# Altium integrated library Actel Fusion.IntLib: 336 symbols (part 35 of 69)
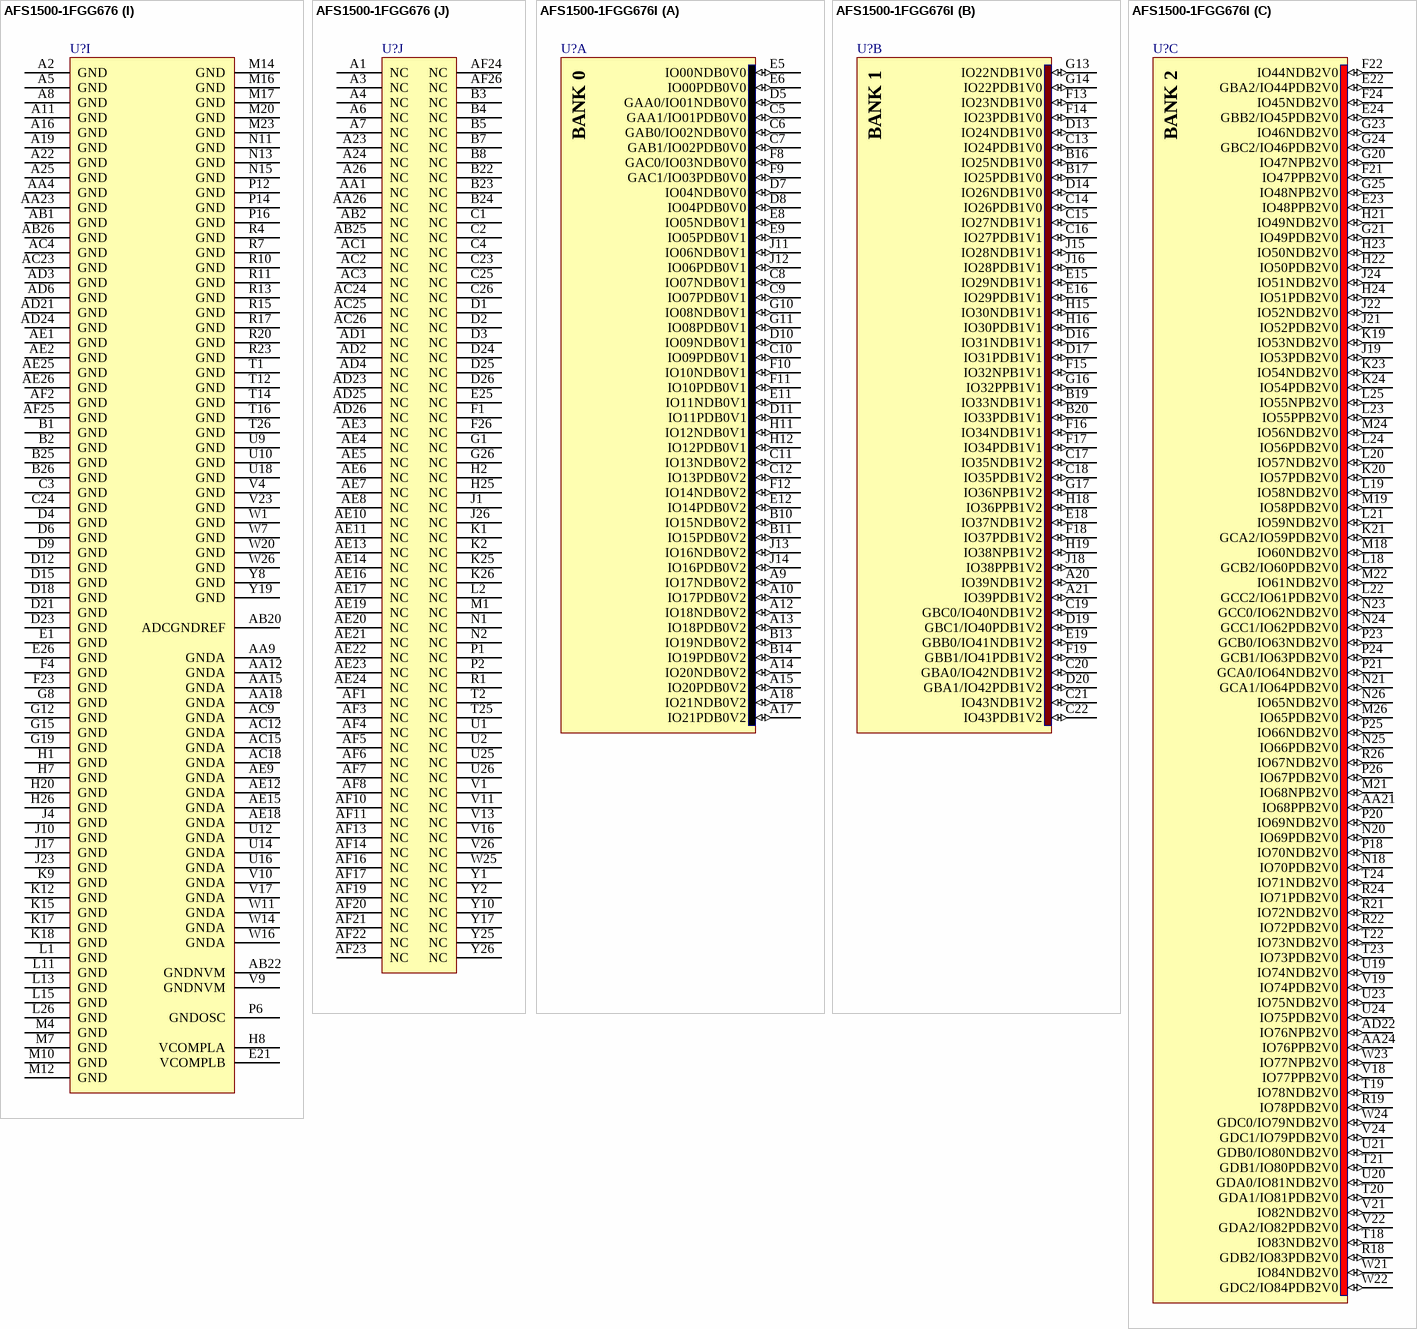
[diagram p315: symbols AFS1500-1FGG676 to AFS1500-1FGG676I]

## AFS1500-1FGG676
designator U?
3.3V Fusion Mixed Signal Flash FPGA, 1.5 Million System Gates, 676-Pin FBGA, 15% Faster Speed Grade, Commercial Grade, Pb-Free; DatasheetVersion: v2.0, Jul-2008; PackageVersion: rev39, Aug-2010; PackageReference: FG676; PackageDescription: 676-Ball Fine Pitch Plastic Ball Grid Array (FG676); Code_JEDEC: MS-034-AAL-1; Code_IPC: BGA100P26X26-676; ComponentLink1Description: Manufacturer URL; ComponentLink1URL: http://www.actel.com/; ComponentLink2Description: Fusion Datasheet; ComponentLink2URL: http://www.actel.com/documents/Fusion_DS.pdf; ComponentLink3Description: Package Mechanical Drawings; ComponentLink3URL: http://www.actel.com/documents/PckgMechDrwngs.pdf; ComponentLink4Description: Fusion Documents; ComponentLink4URL: http://www.actel.com/products/fusion/docs.aspx
footprint FG676 (BGA, 676-Leads, Body 27x27mm, Pitch 1mm)
part A pins: A9 IO17NDB0V2 (io), A10 IO17PDB0V2 (io), A12 IO18NDB0V2 (io), A13 IO18PDB0V2 (io), A14 IO20NDB0V2 (io), A15 IO20PDB0V2 (io), A17 IO21PDB0V2 (io), A18 IO21NDB0V2 (io), B10 IO15NDB0V2 (io), B11 IO15PDB0V2 (io), B13 IO19NDB0V2 (io), B14 IO19PDB0V2 (io), C5 GAA1/IO01PDB0V0 (io), C6 GAB0/IO02NDB0V0 (io), C7 GAB1/IO02PDB0V0 (io), C8 IO07NDB0V1 (io), C9 IO07PDB0V1 (io), C10 IO09PDB0V1 (io), C11 IO13NDB0V2 (io), C12 IO13PDB0V2 (io), D5 GAA0/IO01NDB0V0 (io), D7 IO04NDB0V0 (io), D8 IO04PDB0V0 (io), D10 IO09NDB0V1 (io), D11 IO11PDB0V1 (io), E5 IO00NDB0V0 (io), E6 IO00PDB0V0 (io), E8 IO05NDB0V1 (io), E9 IO05PDB0V1 (io), E11 IO11NDB0V1 (io), E12 IO14PDB0V2 (io), F8 GAC0/IO03NDB0V0 (io), F9 GAC1/IO03PDB0V0 (io), F10 IO10NDB0V1 (io), F11 IO10PDB0V1 (io), F12 IO14NDB0V2 (io), G10 IO08NDB0V1 (io), G11 IO08PDB0V1 (io), H11 IO12NDB0V1 (io), H12 IO12PDB0V1 (io), J11 IO06NDB0V1 (io), J12 IO06PDB0V1 (io), J13 IO16NDB0V2 (io), J14 IO16PDB0V2 (io)
part B pins: A20 IO39NDB1V2 (io), A21 IO39PDB1V2 (io), B16 IO25NDB1V0 (io), B17 IO25PDB1V0 (io), B19 IO33NDB1V1 (io), B20 IO33PDB1V1 (io), C13 IO24PDB1V0 (io), C14 IO26PDB1V0 (io), C15 IO27NDB1V1 (io), C16 IO27PDB1V1 (io), C17 IO35NDB1V2 (io), C18 IO35PDB1V2 (io), C19 GBC0/IO40NDB1V2 (io), C20 GBA0/IO42NDB1V2 (io), C21 IO43NDB1V2 (io), C22 IO43PDB1V2 (io), D13 IO24NDB1V0 (io), D14 IO26NDB1V0 (io), D16 IO31NDB1V1 (io), D17 IO31PDB1V1 (io), D19 GBC1/IO40PDB1V2 (io), D20 GBA1/IO42PDB1V2 (io), E15 IO29NDB1V1 (io), E16 IO29PDB1V1 (io), E18 IO37NDB1V2 (io), E19 GBB0/IO41NDB1V2 (io), F13 IO23NDB1V0 (io), F14 IO23PDB1V0 (io), F15 IO32NPB1V1 (io), F16 IO34NDB1V1 (io), F17 IO34PDB1V1 (io), F18 IO37PDB1V2 (io), F19 GBB1/IO41PDB1V2 (io), G13 IO22NDB1V0 (io), G14 IO22PDB1V0 (io), G16 IO32PPB1V1 (io), G17 IO36NPB1V2 (io), H15 IO30NDB1V1 (io), H16 IO30PDB1V1 (io), H18 IO36PPB1V2 (io), H19 IO38NPB1V2 (io), J15 IO28NDB1V1 (io), J16 IO28PDB1V1 (io), J18 IO38PPB1V2 (io)
part C pins: AA21 IO68PPB2V0 (io), AA24 IO76PPB2V0 (io), AD22 IO76NPB2V0 (io), E22 GBA2/IO44PDB2V0 (io), E23 IO48PPB2V0 (io), E24 GBB2/IO45PDB2V0 (io), F21 IO47PPB2V0 (io), F22 IO44NDB2V0 (io), F24 IO45NDB2V0 (io), G20 IO47NPB2V0 (io), G21 IO49PDB2V0 (io), G23 IO46NDB2V0 (io), G24 GBC2/IO46PDB2V0 (io), G25 IO48NPB2V0 (io), H21 IO49NDB2V0 (io), H22 IO50PDB2V0 (io), H23 IO50NDB2V0 (io), H24 IO51PDB2V0 (io), J19 IO53PDB2V0 (io), J21 IO52PDB2V0 (io), J22 IO52NDB2V0 (io), J24 IO51NDB2V0 (io), K19 IO53NDB2V0 (io), K20 IO57PDB2V0 (io), K21 GCA2/IO59PDB2V0 (io), K23 IO54NDB2V0 (io), K24 IO54PDB2V0 (io), L18 GCB2/IO60PDB2V0 (io), L19 IO58NDB2V0 (io), L20 IO57NDB2V0 (io), L21 IO59NDB2V0 (io), L22 GCC2/IO61PDB2V0 (io), L23 IO55PPB2V0 (io), L24 IO56PDB2V0 (io), L25 IO55NPB2V0 (io), M18 IO60NDB2V0 (io), M19 IO58PDB2V0 (io), M21 IO68NPB2V0 (io), M22 IO61NDB2V0 (io), M24 IO56NDB2V0 (io), M26 IO65PDB2V0 (io), N18 IO70PDB2V0 (io), N20 IO69PDB2V0 (io), N21 GCA1/IO64PDB2V0 (io), N23 GCC0/IO62NDB2V0 (io), N24 GCC1/IO62PDB2V0 (io), N25 IO66PDB2V0 (io), N26 IO65NDB2V0 (io), P18 IO70NDB2V0 (io), P20 IO69NDB2V0 (io), P21 GCA0/IO64NDB2V0 (io), P23 GCB0/IO63NDB2V0 (io), P24 GCB1/IO63PDB2V0 (io), P25 IO66NDB2V0 (io), P26 IO67PDB2V0 (io), R18 GDB2/IO83PDB2V0 (io), R19 IO78PDB2V0 (io), R21 IO72NDB2V0 (io), R22 IO72PDB2V0 (io), R24 IO71PDB2V0 (io), R26 IO67NDB2V0 (io), T18 IO83NDB2V0 (io), T19 IO78NDB2V0 (io), T20 GDA1/IO81PDB2V0 (io), T21 GDB1/IO80PDB2V0 (io), T22 IO73NDB2V0 (io), T23 IO73PDB2V0 (io), T24 IO71NDB2V0 (io), U19 IO74NDB2V0 (io), U20 GDA0/IO81NDB2V0 (io), U21 GDB0/IO80NDB2V0 (io), U23 IO75NDB2V0 (io), U24 IO75PDB2V0 (io), V18 IO77PPB2V0 (io), V19 IO74PDB2V0 (io), V21 IO82NDB2V0 (io), V22 GDA2/IO82PDB2V0 (io), V24 GDC1/IO79PDB2V0 (io), W21 IO84NDB2V0 (io), W22 GDC2/IO84PDB2V0 (io), W23 IO77NPB2V0 (io), W24 GDC0/IO79NDB2V0 (io)
part D pins: AA3 IO93PDB4V0 (io), AA5 IO93NDB4V0 (io), AA6 GEB2/IO86PDB4V0 (io), AA7 IO86NDB4V0 (io), AB3 GEC2/IO87PDB4V0 (io), AB4 IO87NDB4V0 (io), AB5 GEA2/IO85PDB4V0 (io), AB6 IO85NDB4V0 (io), AD5 IO94NPB4V0 (io), E2 IO122NPB4V0 (io), E3 IO121PDB4V0 (io), E4 IO122PPB4V0 (io), F3 IO121NDB4V0 (io), F5 IO123NDB4V0 (io), F6 GAC2/IO123PDB4V0 (io), F7 GAA2/IO125PDB4V0 (io), G2 IO119PPB4V0 (io), G3 IO120NDB4V0 (io), G4 IO120PDB4V0 (io), G6 GAB2/IO124PDB4V0 (io), G7 IO125NDB4V0 (io), H3 IO118NDB4V0 (io), H4 IO118PDB4V0 (io), H5 IO119NPB4V0 (io), H6 IO124NDB4V0 (io), J3 IO115PDB4V0 (io), J5 IO116NDB4V0 (io), J6 IO116PDB4V0 (io), J8 IO117PDB4V0 (io), K3 IO115NDB4V0 (io), K4 IO113PDB4V0 (io), K6 IO114NDB4V0 (io), K7 IO114PDB4V0 (io), K8 IO117NDB4V0 (io), L3 IO112PPB4V0 (io), L4 IO113NDB4V0 (io), L5 GFB2/IO109PDB4V0 (io), L6 GFA2/IO110PDB4V0 (io), L7 IO112NPB4V0 (io), L8 IO104PDB4V0 (io), L9 IO111PDB4V0 (io), M3 GFC2/IO108PDB4V0 (io), M5 IO109NDB4V0 (io), M6 IO110NDB4V0 (io), M8 IO104NDB4V0 (io), M9 IO111NDB4V0 (io), N3 IO108NDB4V0 (io), N7 GFC1/IO107PDB4V0 (io), N9 GFB1/IO106PDB4V0 (io), P3 IO103PDB4V0 (io), P7 GFC0/IO107NDB4V0 (io), P9 GFB0/IO106NDB4V0 (io), R3 IO103NDB4V0 (io), R5 IO101PDB4V0 (io), R6 IO100NPB4V0 (io), R8 IO99PDB4V0 (io), R9 IO97PDB4V0 (io), T3 GFA1/IO105PDB4V0 (io), T4 GFA0/IO105NDB4V0 (io), T5 IO101NDB4V0 (io), T6 IO96PDB4V0 (io), T7 IO96NDB4V0 (io), T8 IO99NDB4V0 (io), T9 IO97NDB4V0 (io), U3 IO102PDB4V0 (io), U4 IO102NDB4V0 (io), U6 IO91PDB4V0 (io), U7 IO91NDB4V0 (io), U8 IO92PDB4V0 (io), V3 IO100PPB4V0 (io), V5 IO95PDB4V0 (io), V6 IO95NDB4V0 (io), V8 IO92NDB4V0 (io), W2 IO94PPB4V0 (io), W3 IO98PDB4V0 (io), W4 IO98NDB4V0 (io), W5 GEC1/IO90PDB4V0 (io), W6 GEC0/IO90NDB4V0 (io), Y3 GEB1/IO89PDB4V0 (io), Y4 GEB0/IO89NDB4V0 (io), Y6 GEA1/IO88PDB4V0 (io), Y7 GEA0/IO88NDB4V0 (io)
part E pins: AA8 AV0 (in), AA10 AV1 (in), AA11 AV2 (in), AA13 AV3 (in), AA14 AV6 (in), AA16 AV7 (in), AA17 AV8 (in), AA19 AV9 (in), AB8 AC0 (in), AB10 AC1 (in), AB11 AC2 (in), AB13 AC3 (in), AB14 AC6 (in), AB16 AC7 (in), AB17 AC8 (in), AB19 AC9 (in), AC8 AG0 (out), AC10 AG1 (out), AC11 AG2 (out), AC13 AG3 (out), AC14 AG6 (out), AC16 AG7 (out), AC17 AG8 (out), AC19 AG9 (out), AD8 AT0 (in), AD9 ATRTN0, AD10 AT1 (in), AD11 AT2 (in), AD12 ATRTN1, AD13 AT3 (in), AD14 AT6 (in), AD15 ATRTN3, AD16 AT7 (in), AD17 AT8 (in), AD18 ATRTN4, AD19 AT9 (in), V12 AV4 (in), V14 AV5 (in), V15 AC5 (in), W12 AC4 (in), W15 AG5 (out), Y12 AG4 (out), Y13 AT4 (in), Y14 ATRTN2, Y15 AT5 (in)
part F pins: AA22 TCK (in), W19 TDI (in), Y20 TMS (in), Y23 ~{TRST} (in), Y24 TDO (out)
part G pins: AB7 NCAP, AB21 PTBASE (out), AC7 PCAP, AC22 PTEM (in), N6 XTAL2, P4 XTAL1, W17 PUB
part H pins: AA2 VCCIB4 (power), AA20 VCCIB2 (power), AA25 VCCIB2 (power), AB9 VCC33A (power), AB12 VCC33A (power), AB15 VCC33A (power), AB18 VCC33A (power), AB23 VCCNVM (power), AB24 VPUMP (power), AC5 VCCIB4 (power), AC6 VCCIB4 (power), AC20 VAREF (power), AC21 VCCIB2 (power), AD7 VCC33N (power), AD20 VCC33A (power), AF9 VCC33A (power), AF12 VCC33A (power), AF15 VCC33A (power), AF18 VCC33A (power), B6 VCCIB0 (power), B9 VCCIB0 (power), B12 VCCIB0 (power), B15 VCCIB1 (power), B18 VCCIB1 (power), B21 VCCIB1 (power), D22 VCCPLB (power), E7 VCCIB0 (power), E10 VCCIB0 (power), E13 VCCIB0 (power), E14 VCCIB1 (power), E17 VCCIB1 (power), E20 VCCIB1 (power), F2 VCCIB4 (power), F20 VCCIB2 (power), F25 VCCIB2 (power), G5 VCCIB4 (power), G9 VCCIB0 (power), G18 VCCIB1 (power), G22 VCCIB2 (power), H9 VCCPLA (power), H10 VCCIB0 (power), H13 VCCIB0 (power), H14 VCCIB1 (power), H17 VCCIB1 (power), J2 VCCIB4 (power), J7 VCCIB4 (power), J9 VCCIB4 (power), J20 VCCIB2 (power), J25 VCCIB2 (power), K5 VCCIB4 (power), K10 VCC (power), K11 VCCIB0 (power), K13 VCCIB0 (power), K14 VCCIB1 (power), K16 VCCIB1 (power), K22 VCCIB2 (power), L10 VCCIB4 (power), L12 VCC (power), L14 VCC (power), L16 VCC (power), L17 VCCIB2 (power), M2 VCCIB4 (power), M11 VCC (power), M13 VCC (power), M15 VCC (power), M25 VCCIB2 (power), N4 VCCOSC (power), N5 VCCIB4 (power), N8 VCCIB4 (power), N10 VCCIB4 (power), N12 VCC (power), N14 VCC (power), N16 VCC (power), N17 VCCIB2 (power), N19 VCCIB2 (power), N22 VCCIB2 (power), P5 VCCIB4 (power), P8 VCCIB4 (power), P10 VCCIB4 (power), P11 VCC (power), P13 VCC (power), P15 VCC (power), P17 VCCIB2 (power), P19 VCCIB2 (power), P22 VCCIB2 (power), R2 VCCIB4 (power), R12 VCC (power), R14 VCC (power), R16 VCC (power), R25 VCCIB2 (power), T10 VCCIB4 (power), T11 VCC (power), T13 VCC (power), T15 VCC (power), T17 VCCIB2 (power), U5 VCCIB4 (power), U11 VCC33A (power), U13 VCC33A (power), U15 VCC33A (power), U17 VCC (power), U22 VCCIB2 (power), V2 VCCIB4 (power), V7 VCCIB4 (power), V20 VCCIB2 (power), V25 VCCIB2 (power), W8 VCCNVM (power), W9 VCCIB4 (power), W10 VCC15A (power), W13 VCC33A (power), W18 VCCIB2 (power), Y5 VCCIB4 (power), Y9 VCC33PMP (power), Y11 VCC33A (power), Y16 VCC33A (power), Y18 VCC33A (power), Y21 VJTAG (power), Y22 VCCIB2 (power)
part I pins: A2 GND (power), A5 GND (power), A8 GND (power), A11 GND (power), A16 GND (power), A19 GND (power), A22 GND (power), A25 GND (power), AA4 GND (power), AA9 GNDA (power), AA12 GNDA (power), AA15 GNDA (power), AA18 GNDA (power), AA23 GND (power), AB1 GND (power), AB20 ADCGNDREF (power), AB22 GNDNVM (power), AB26 GND (power), AC4 GND (power), AC9 GNDA (power), AC12 GNDA (power), AC15 GNDA (power), AC18 GNDA (power), AC23 GND (power), AD3 GND (power), AD6 GND (power), AD21 GND (power), AD24 GND (power), AE1 GND (power), AE2 GND (power), AE9 GNDA (power), AE12 GNDA (power), AE15 GNDA (power), AE18 GNDA (power), AE25 GND (power), AE26 GND (power), AF2 GND (power), AF25 GND (power), B1 GND (power), B2 GND (power), B25 GND (power), B26 GND (power), C3 GND (power), C24 GND (power), D4 GND (power), D6 GND (power), D9 GND (power), D12 GND (power), D15 GND (power), D18 GND (power), D21 GND (power), D23 GND (power), E1 GND (power), E21 VCOMPLB (power), E26 GND (power), F4 GND (power), F23 GND (power), G8 GND (power), G12 GND (power), G15 GND (power), G19 GND (power), H1 GND (power), H7 GND (power), H8 VCOMPLA (power), H20 GND (power), H26 GND (power), J4 GND (power), J10 GND (power), J17 GND (power), J23 GND (power), K9 GND (power), K12 GND (power), K15 GND (power), K17 GND (power), K18 GND (power), L1 GND (power), L11 GND (power), L13 GND (power), L15 GND (power), L26 GND (power), M4 GND (power), M7 GND (power), M10 GND (power), M12 GND (power), M14 GND (power), M16 GND (power), M17 GND (power), M20 GND (power), M23 GND (power), N11 GND (power), N13 GND (power), N15 GND (power), P6 GNDOSC (power), P12 GND (power), P14 GND (power), P16 GND (power), R4 GND (power), R7 GND (power), R10 GND (power), R11 GND (power), R13 GND (power), R15 GND (power), R17 GND (power), R20 GND (power), R23 GND (power), T1 GND (power), T12 GND (power), T14 GND (power), T16 GND (power), T26 GND (power), U9 GND (power), U10 GND (power), U12 GNDA (power), U14 GNDA (power), U16 GNDA (power), U18 GND (power), V4 GND (power), V9 GNDNVM (power), V10 GNDA (power), V17 GNDA (power), V23 GND (power), W1 GND (power), W7 GND (power), W11 GNDA (power), W14 GNDA (power), W16 GNDA (power), W20 GND (power), W26 GND (power), Y8 GND (power), Y19 GND (power)
part J pins: A1 NC, A3 NC, A4 NC, A6 NC, A7 NC, A23 NC, A24 NC, A26 NC, AA1 NC, AA26 NC, AB2 NC, AB25 NC, AC1 NC, AC2 NC, AC3 NC, AC24 NC, AC25 NC, AC26 NC, AD1 NC, AD2 NC, AD4 NC, AD23 NC, AD25 NC, AD26 NC, AE3 NC, AE4 NC, AE5 NC, AE6 NC, AE7 NC, AE8 NC, AE10 NC, AE11 NC, AE13 NC, AE14 NC, AE16 NC, AE17 NC, AE19 NC, AE20 NC, AE21 NC, AE22 NC, AE23 NC, AE24 NC, AF1 NC, AF3 NC, AF4 NC, AF5 NC, AF6 NC, AF7 NC, AF8 NC, AF10 NC, AF11 NC, AF13 NC, AF14 NC, AF16 NC, AF17 NC, AF19 NC, AF20 NC, AF21 NC, AF22 NC, AF23 NC, AF24 NC, AF26 NC, B3 NC, B4 NC, B5 NC, B7 NC, B8 NC, B22 NC, B23 NC, B24 NC, C1 NC, C2 NC, C4 NC, C23 NC, C25 NC, C26 NC, D1 NC, D2 NC, D3 NC, D24 NC, D25 NC, D26 NC, E25 NC, F1 NC, F26 NC, G1 NC, G26 NC, H2 NC, H25 NC, J1 NC, J26 NC, K1 NC, K2 NC, K25 NC, K26 NC, L2 NC, M1 NC, N1 NC, N2 NC, P1 NC, P2 NC, R1 NC, T2 NC, T25 NC, U1 NC, U2 NC, U25 NC, U26 NC, V1 NC, V11 NC, V13 NC, V16 NC, V26 NC, W25 NC, Y1 NC, Y2 NC, Y10 NC, Y17 NC, Y25 NC, Y26 NC
part A text: BANK 0
part B text: BANK 1
part C text: BANK 2
part D text: BANK 4

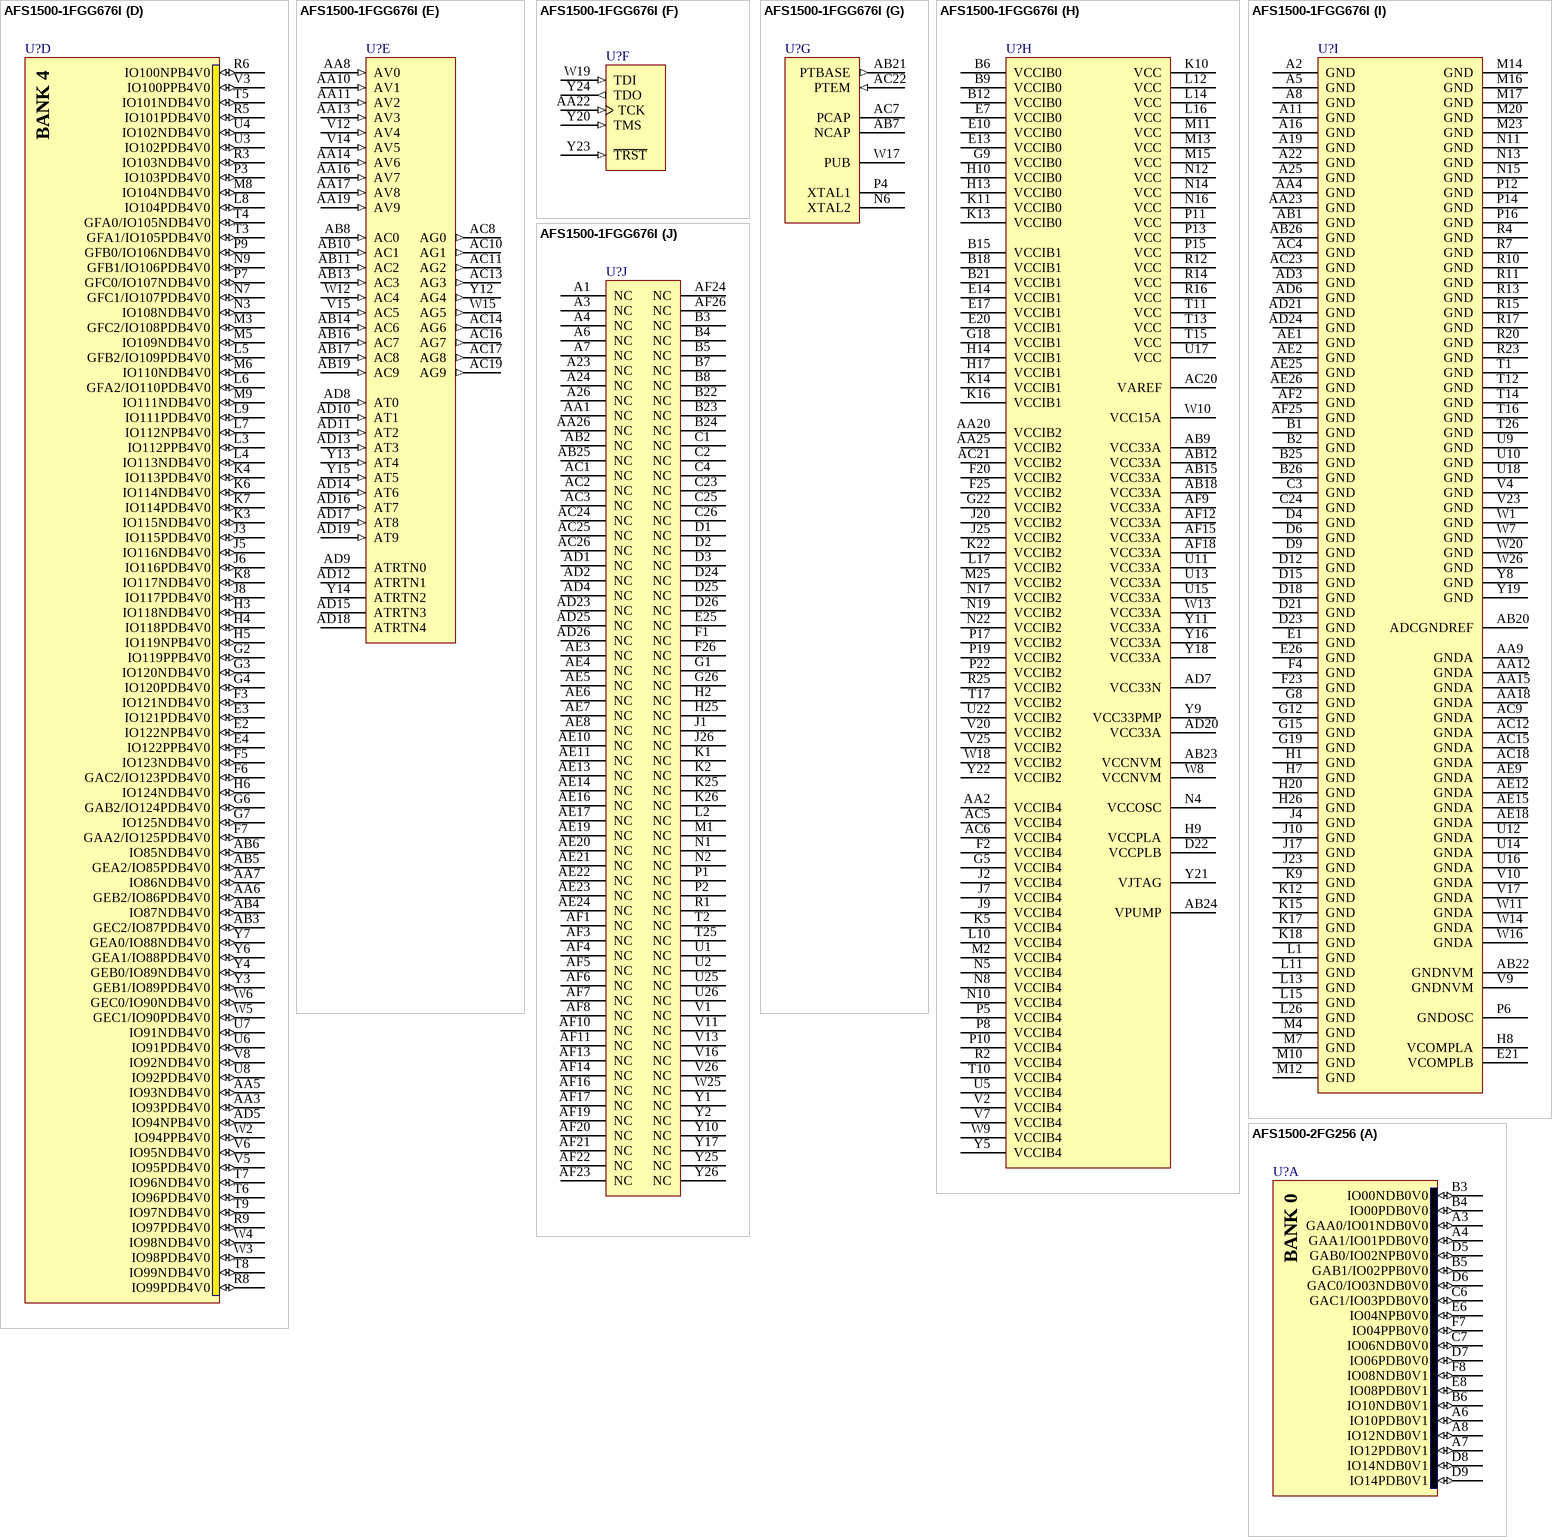
[diagram p102: symbols AFS1500-1FGG676I to AFS1500-2FG256]

## AFS1500-1FGG676I
designator U?
3.3V Fusion Mixed Signal Flash FPGA, 1.5 Million System Gates, 676-Pin FBGA, 15% Faster Speed Grade, Industrial Grade, Pb-Free; DatasheetVersion: v2.0, Jul-2008; PackageVersion: rev39, Aug-2010; PackageReference: FG676; PackageDescription: 676-Ball Fine Pitch Plastic Ball Grid Array (FG676); Code_JEDEC: MS-034-AAL-1; Code_IPC: BGA100P26X26-676; ComponentLink1Description: Manufacturer URL; ComponentLink1URL: http://www.actel.com/; ComponentLink2Description: Fusion Datasheet; ComponentLink2URL: http://www.actel.com/documents/Fusion_DS.pdf; ComponentLink3Description: Package Mechanical Drawings; ComponentLink3URL: http://www.actel.com/documents/PckgMechDrwngs.pdf; ComponentLink4Description: Fusion Documents; ComponentLink4URL: http://www.actel.com/products/fusion/docs.aspx
footprint FG676 (BGA, 676-Leads, Body 27x27mm, Pitch 1mm)
part A pins: A9 IO17NDB0V2 (io), A10 IO17PDB0V2 (io), A12 IO18NDB0V2 (io), A13 IO18PDB0V2 (io), A14 IO20NDB0V2 (io), A15 IO20PDB0V2 (io), A17 IO21PDB0V2 (io), A18 IO21NDB0V2 (io), B10 IO15NDB0V2 (io), B11 IO15PDB0V2 (io), B13 IO19NDB0V2 (io), B14 IO19PDB0V2 (io), C5 GAA1/IO01PDB0V0 (io), C6 GAB0/IO02NDB0V0 (io), C7 GAB1/IO02PDB0V0 (io), C8 IO07NDB0V1 (io), C9 IO07PDB0V1 (io), C10 IO09PDB0V1 (io), C11 IO13NDB0V2 (io), C12 IO13PDB0V2 (io), D5 GAA0/IO01NDB0V0 (io), D7 IO04NDB0V0 (io), D8 IO04PDB0V0 (io), D10 IO09NDB0V1 (io), D11 IO11PDB0V1 (io), E5 IO00NDB0V0 (io), E6 IO00PDB0V0 (io), E8 IO05NDB0V1 (io), E9 IO05PDB0V1 (io), E11 IO11NDB0V1 (io), E12 IO14PDB0V2 (io), F8 GAC0/IO03NDB0V0 (io), F9 GAC1/IO03PDB0V0 (io), F10 IO10NDB0V1 (io), F11 IO10PDB0V1 (io), F12 IO14NDB0V2 (io), G10 IO08NDB0V1 (io), G11 IO08PDB0V1 (io), H11 IO12NDB0V1 (io), H12 IO12PDB0V1 (io), J11 IO06NDB0V1 (io), J12 IO06PDB0V1 (io), J13 IO16NDB0V2 (io), J14 IO16PDB0V2 (io)
part B pins: A20 IO39NDB1V2 (io), A21 IO39PDB1V2 (io), B16 IO25NDB1V0 (io), B17 IO25PDB1V0 (io), B19 IO33NDB1V1 (io), B20 IO33PDB1V1 (io), C13 IO24PDB1V0 (io), C14 IO26PDB1V0 (io), C15 IO27NDB1V1 (io), C16 IO27PDB1V1 (io), C17 IO35NDB1V2 (io), C18 IO35PDB1V2 (io), C19 GBC0/IO40NDB1V2 (io), C20 GBA0/IO42NDB1V2 (io), C21 IO43NDB1V2 (io), C22 IO43PDB1V2 (io), D13 IO24NDB1V0 (io), D14 IO26NDB1V0 (io), D16 IO31NDB1V1 (io), D17 IO31PDB1V1 (io), D19 GBC1/IO40PDB1V2 (io), D20 GBA1/IO42PDB1V2 (io), E15 IO29NDB1V1 (io), E16 IO29PDB1V1 (io), E18 IO37NDB1V2 (io), E19 GBB0/IO41NDB1V2 (io), F13 IO23NDB1V0 (io), F14 IO23PDB1V0 (io), F15 IO32NPB1V1 (io), F16 IO34NDB1V1 (io), F17 IO34PDB1V1 (io), F18 IO37PDB1V2 (io), F19 GBB1/IO41PDB1V2 (io), G13 IO22NDB1V0 (io), G14 IO22PDB1V0 (io), G16 IO32PPB1V1 (io), G17 IO36NPB1V2 (io), H15 IO30NDB1V1 (io), H16 IO30PDB1V1 (io), H18 IO36PPB1V2 (io), H19 IO38NPB1V2 (io), J15 IO28NDB1V1 (io), J16 IO28PDB1V1 (io), J18 IO38PPB1V2 (io)
part C pins: AA21 IO68PPB2V0 (io), AA24 IO76PPB2V0 (io), AD22 IO76NPB2V0 (io), E22 GBA2/IO44PDB2V0 (io), E23 IO48PPB2V0 (io), E24 GBB2/IO45PDB2V0 (io), F21 IO47PPB2V0 (io), F22 IO44NDB2V0 (io), F24 IO45NDB2V0 (io), G20 IO47NPB2V0 (io), G21 IO49PDB2V0 (io), G23 IO46NDB2V0 (io), G24 GBC2/IO46PDB2V0 (io), G25 IO48NPB2V0 (io), H21 IO49NDB2V0 (io), H22 IO50PDB2V0 (io), H23 IO50NDB2V0 (io), H24 IO51PDB2V0 (io), J19 IO53PDB2V0 (io), J21 IO52PDB2V0 (io), J22 IO52NDB2V0 (io), J24 IO51NDB2V0 (io), K19 IO53NDB2V0 (io), K20 IO57PDB2V0 (io), K21 GCA2/IO59PDB2V0 (io), K23 IO54NDB2V0 (io), K24 IO54PDB2V0 (io), L18 GCB2/IO60PDB2V0 (io), L19 IO58NDB2V0 (io), L20 IO57NDB2V0 (io), L21 IO59NDB2V0 (io), L22 GCC2/IO61PDB2V0 (io), L23 IO55PPB2V0 (io), L24 IO56PDB2V0 (io), L25 IO55NPB2V0 (io), M18 IO60NDB2V0 (io), M19 IO58PDB2V0 (io), M21 IO68NPB2V0 (io), M22 IO61NDB2V0 (io), M24 IO56NDB2V0 (io), M26 IO65PDB2V0 (io), N18 IO70PDB2V0 (io), N20 IO69PDB2V0 (io), N21 GCA1/IO64PDB2V0 (io), N23 GCC0/IO62NDB2V0 (io), N24 GCC1/IO62PDB2V0 (io), N25 IO66PDB2V0 (io), N26 IO65NDB2V0 (io), P18 IO70NDB2V0 (io), P20 IO69NDB2V0 (io), P21 GCA0/IO64NDB2V0 (io), P23 GCB0/IO63NDB2V0 (io), P24 GCB1/IO63PDB2V0 (io), P25 IO66NDB2V0 (io), P26 IO67PDB2V0 (io), R18 GDB2/IO83PDB2V0 (io), R19 IO78PDB2V0 (io), R21 IO72NDB2V0 (io), R22 IO72PDB2V0 (io), R24 IO71PDB2V0 (io), R26 IO67NDB2V0 (io), T18 IO83NDB2V0 (io), T19 IO78NDB2V0 (io), T20 GDA1/IO81PDB2V0 (io), T21 GDB1/IO80PDB2V0 (io), T22 IO73NDB2V0 (io), T23 IO73PDB2V0 (io), T24 IO71NDB2V0 (io), U19 IO74NDB2V0 (io), U20 GDA0/IO81NDB2V0 (io), U21 GDB0/IO80NDB2V0 (io), U23 IO75NDB2V0 (io), U24 IO75PDB2V0 (io), V18 IO77PPB2V0 (io), V19 IO74PDB2V0 (io), V21 IO82NDB2V0 (io), V22 GDA2/IO82PDB2V0 (io), V24 GDC1/IO79PDB2V0 (io), W21 IO84NDB2V0 (io), W22 GDC2/IO84PDB2V0 (io), W23 IO77NPB2V0 (io), W24 GDC0/IO79NDB2V0 (io)
part D pins: AA3 IO93PDB4V0 (io), AA5 IO93NDB4V0 (io), AA6 GEB2/IO86PDB4V0 (io), AA7 IO86NDB4V0 (io), AB3 GEC2/IO87PDB4V0 (io), AB4 IO87NDB4V0 (io), AB5 GEA2/IO85PDB4V0 (io), AB6 IO85NDB4V0 (io), AD5 IO94NPB4V0 (io), E2 IO122NPB4V0 (io), E3 IO121PDB4V0 (io), E4 IO122PPB4V0 (io), F3 IO121NDB4V0 (io), F5 IO123NDB4V0 (io), F6 GAC2/IO123PDB4V0 (io), F7 GAA2/IO125PDB4V0 (io), G2 IO119PPB4V0 (io), G3 IO120NDB4V0 (io), G4 IO120PDB4V0 (io), G6 GAB2/IO124PDB4V0 (io), G7 IO125NDB4V0 (io), H3 IO118NDB4V0 (io), H4 IO118PDB4V0 (io), H5 IO119NPB4V0 (io), H6 IO124NDB4V0 (io), J3 IO115PDB4V0 (io), J5 IO116NDB4V0 (io), J6 IO116PDB4V0 (io), J8 IO117PDB4V0 (io), K3 IO115NDB4V0 (io), K4 IO113PDB4V0 (io), K6 IO114NDB4V0 (io), K7 IO114PDB4V0 (io), K8 IO117NDB4V0 (io), L3 IO112PPB4V0 (io), L4 IO113NDB4V0 (io), L5 GFB2/IO109PDB4V0 (io), L6 GFA2/IO110PDB4V0 (io), L7 IO112NPB4V0 (io), L8 IO104PDB4V0 (io), L9 IO111PDB4V0 (io), M3 GFC2/IO108PDB4V0 (io), M5 IO109NDB4V0 (io), M6 IO110NDB4V0 (io), M8 IO104NDB4V0 (io), M9 IO111NDB4V0 (io), N3 IO108NDB4V0 (io), N7 GFC1/IO107PDB4V0 (io), N9 GFB1/IO106PDB4V0 (io), P3 IO103PDB4V0 (io), P7 GFC0/IO107NDB4V0 (io), P9 GFB0/IO106NDB4V0 (io), R3 IO103NDB4V0 (io), R5 IO101PDB4V0 (io), R6 IO100NPB4V0 (io), R8 IO99PDB4V0 (io), R9 IO97PDB4V0 (io), T3 GFA1/IO105PDB4V0 (io), T4 GFA0/IO105NDB4V0 (io), T5 IO101NDB4V0 (io), T6 IO96PDB4V0 (io), T7 IO96NDB4V0 (io), T8 IO99NDB4V0 (io), T9 IO97NDB4V0 (io), U3 IO102PDB4V0 (io), U4 IO102NDB4V0 (io), U6 IO91PDB4V0 (io), U7 IO91NDB4V0 (io), U8 IO92PDB4V0 (io), V3 IO100PPB4V0 (io), V5 IO95PDB4V0 (io), V6 IO95NDB4V0 (io), V8 IO92NDB4V0 (io), W2 IO94PPB4V0 (io), W3 IO98PDB4V0 (io), W4 IO98NDB4V0 (io), W5 GEC1/IO90PDB4V0 (io), W6 GEC0/IO90NDB4V0 (io), Y3 GEB1/IO89PDB4V0 (io), Y4 GEB0/IO89NDB4V0 (io), Y6 GEA1/IO88PDB4V0 (io), Y7 GEA0/IO88NDB4V0 (io)
part E pins: AA8 AV0 (in), AA10 AV1 (in), AA11 AV2 (in), AA13 AV3 (in), AA14 AV6 (in), AA16 AV7 (in), AA17 AV8 (in), AA19 AV9 (in), AB8 AC0 (in), AB10 AC1 (in), AB11 AC2 (in), AB13 AC3 (in), AB14 AC6 (in), AB16 AC7 (in), AB17 AC8 (in), AB19 AC9 (in), AC8 AG0 (out), AC10 AG1 (out), AC11 AG2 (out), AC13 AG3 (out), AC14 AG6 (out), AC16 AG7 (out), AC17 AG8 (out), AC19 AG9 (out), AD8 AT0 (in), AD9 ATRTN0, AD10 AT1 (in), AD11 AT2 (in), AD12 ATRTN1, AD13 AT3 (in), AD14 AT6 (in), AD15 ATRTN3, AD16 AT7 (in), AD17 AT8 (in), AD18 ATRTN4, AD19 AT9 (in), V12 AV4 (in), V14 AV5 (in), V15 AC5 (in), W12 AC4 (in), W15 AG5 (out), Y12 AG4 (out), Y13 AT4 (in), Y14 ATRTN2, Y15 AT5 (in)
part F pins: AA22 TCK (in), W19 TDI (in), Y20 TMS (in), Y23 ~{TRST} (in), Y24 TDO (out)
part G pins: AB7 NCAP, AB21 PTBASE (out), AC7 PCAP, AC22 PTEM (in), N6 XTAL2, P4 XTAL1, W17 PUB
part H pins: AA2 VCCIB4 (power), AA20 VCCIB2 (power), AA25 VCCIB2 (power), AB9 VCC33A (power), AB12 VCC33A (power), AB15 VCC33A (power), AB18 VCC33A (power), AB23 VCCNVM (power), AB24 VPUMP (power), AC5 VCCIB4 (power), AC6 VCCIB4 (power), AC20 VAREF (power), AC21 VCCIB2 (power), AD7 VCC33N (power), AD20 VCC33A (power), AF9 VCC33A (power), AF12 VCC33A (power), AF15 VCC33A (power), AF18 VCC33A (power), B6 VCCIB0 (power), B9 VCCIB0 (power), B12 VCCIB0 (power), B15 VCCIB1 (power), B18 VCCIB1 (power), B21 VCCIB1 (power), D22 VCCPLB (power), E7 VCCIB0 (power), E10 VCCIB0 (power), E13 VCCIB0 (power), E14 VCCIB1 (power), E17 VCCIB1 (power), E20 VCCIB1 (power), F2 VCCIB4 (power), F20 VCCIB2 (power), F25 VCCIB2 (power), G5 VCCIB4 (power), G9 VCCIB0 (power), G18 VCCIB1 (power), G22 VCCIB2 (power), H9 VCCPLA (power), H10 VCCIB0 (power), H13 VCCIB0 (power), H14 VCCIB1 (power), H17 VCCIB1 (power), J2 VCCIB4 (power), J7 VCCIB4 (power), J9 VCCIB4 (power), J20 VCCIB2 (power), J25 VCCIB2 (power), K5 VCCIB4 (power), K10 VCC (power), K11 VCCIB0 (power), K13 VCCIB0 (power), K14 VCCIB1 (power), K16 VCCIB1 (power), K22 VCCIB2 (power), L10 VCCIB4 (power), L12 VCC (power), L14 VCC (power), L16 VCC (power), L17 VCCIB2 (power), M2 VCCIB4 (power), M11 VCC (power), M13 VCC (power), M15 VCC (power), M25 VCCIB2 (power), N4 VCCOSC (power), N5 VCCIB4 (power), N8 VCCIB4 (power), N10 VCCIB4 (power), N12 VCC (power), N14 VCC (power), N16 VCC (power), N17 VCCIB2 (power), N19 VCCIB2 (power), N22 VCCIB2 (power), P5 VCCIB4 (power), P8 VCCIB4 (power), P10 VCCIB4 (power), P11 VCC (power), P13 VCC (power), P15 VCC (power), P17 VCCIB2 (power), P19 VCCIB2 (power), P22 VCCIB2 (power), R2 VCCIB4 (power), R12 VCC (power), R14 VCC (power), R16 VCC (power), R25 VCCIB2 (power), T10 VCCIB4 (power), T11 VCC (power), T13 VCC (power), T15 VCC (power), T17 VCCIB2 (power), U5 VCCIB4 (power), U11 VCC33A (power), U13 VCC33A (power), U15 VCC33A (power), U17 VCC (power), U22 VCCIB2 (power), V2 VCCIB4 (power), V7 VCCIB4 (power), V20 VCCIB2 (power), V25 VCCIB2 (power), W8 VCCNVM (power), W9 VCCIB4 (power), W10 VCC15A (power), W13 VCC33A (power), W18 VCCIB2 (power), Y5 VCCIB4 (power), Y9 VCC33PMP (power), Y11 VCC33A (power), Y16 VCC33A (power), Y18 VCC33A (power), Y21 VJTAG (power), Y22 VCCIB2 (power)
part I pins: A2 GND (power), A5 GND (power), A8 GND (power), A11 GND (power), A16 GND (power), A19 GND (power), A22 GND (power), A25 GND (power), AA4 GND (power), AA9 GNDA (power), AA12 GNDA (power), AA15 GNDA (power), AA18 GNDA (power), AA23 GND (power), AB1 GND (power), AB20 ADCGNDREF (power), AB22 GNDNVM (power), AB26 GND (power), AC4 GND (power), AC9 GNDA (power), AC12 GNDA (power), AC15 GNDA (power), AC18 GNDA (power), AC23 GND (power), AD3 GND (power), AD6 GND (power), AD21 GND (power), AD24 GND (power), AE1 GND (power), AE2 GND (power), AE9 GNDA (power), AE12 GNDA (power), AE15 GNDA (power), AE18 GNDA (power), AE25 GND (power), AE26 GND (power), AF2 GND (power), AF25 GND (power), B1 GND (power), B2 GND (power), B25 GND (power), B26 GND (power), C3 GND (power), C24 GND (power), D4 GND (power), D6 GND (power), D9 GND (power), D12 GND (power), D15 GND (power), D18 GND (power), D21 GND (power), D23 GND (power), E1 GND (power), E21 VCOMPLB (power), E26 GND (power), F4 GND (power), F23 GND (power), G8 GND (power), G12 GND (power), G15 GND (power), G19 GND (power), H1 GND (power), H7 GND (power), H8 VCOMPLA (power), H20 GND (power), H26 GND (power), J4 GND (power), J10 GND (power), J17 GND (power), J23 GND (power), K9 GND (power), K12 GND (power), K15 GND (power), K17 GND (power), K18 GND (power), L1 GND (power), L11 GND (power), L13 GND (power), L15 GND (power), L26 GND (power), M4 GND (power), M7 GND (power), M10 GND (power), M12 GND (power), M14 GND (power), M16 GND (power), M17 GND (power), M20 GND (power), M23 GND (power), N11 GND (power), N13 GND (power), N15 GND (power), P6 GNDOSC (power), P12 GND (power), P14 GND (power), P16 GND (power), R4 GND (power), R7 GND (power), R10 GND (power), R11 GND (power), R13 GND (power), R15 GND (power), R17 GND (power), R20 GND (power), R23 GND (power), T1 GND (power), T12 GND (power), T14 GND (power), T16 GND (power), T26 GND (power), U9 GND (power), U10 GND (power), U12 GNDA (power), U14 GNDA (power), U16 GNDA (power), U18 GND (power), V4 GND (power), V9 GNDNVM (power), V10 GNDA (power), V17 GNDA (power), V23 GND (power), W1 GND (power), W7 GND (power), W11 GNDA (power), W14 GNDA (power), W16 GNDA (power), W20 GND (power), W26 GND (power), Y8 GND (power), Y19 GND (power)
part J pins: A1 NC, A3 NC, A4 NC, A6 NC, A7 NC, A23 NC, A24 NC, A26 NC, AA1 NC, AA26 NC, AB2 NC, AB25 NC, AC1 NC, AC2 NC, AC3 NC, AC24 NC, AC25 NC, AC26 NC, AD1 NC, AD2 NC, AD4 NC, AD23 NC, AD25 NC, AD26 NC, AE3 NC, AE4 NC, AE5 NC, AE6 NC, AE7 NC, AE8 NC, AE10 NC, AE11 NC, AE13 NC, AE14 NC, AE16 NC, AE17 NC, AE19 NC, AE20 NC, AE21 NC, AE22 NC, AE23 NC, AE24 NC, AF1 NC, AF3 NC, AF4 NC, AF5 NC, AF6 NC, AF7 NC, AF8 NC, AF10 NC, AF11 NC, AF13 NC, AF14 NC, AF16 NC, AF17 NC, AF19 NC, AF20 NC, AF21 NC, AF22 NC, AF23 NC, AF24 NC, AF26 NC, B3 NC, B4 NC, B5 NC, B7 NC, B8 NC, B22 NC, B23 NC, B24 NC, C1 NC, C2 NC, C4 NC, C23 NC, C25 NC, C26 NC, D1 NC, D2 NC, D3 NC, D24 NC, D25 NC, D26 NC, E25 NC, F1 NC, F26 NC, G1 NC, G26 NC, H2 NC, H25 NC, J1 NC, J26 NC, K1 NC, K2 NC, K25 NC, K26 NC, L2 NC, M1 NC, N1 NC, N2 NC, P1 NC, P2 NC, R1 NC, T2 NC, T25 NC, U1 NC, U2 NC, U25 NC, U26 NC, V1 NC, V11 NC, V13 NC, V16 NC, V26 NC, W25 NC, Y1 NC, Y2 NC, Y10 NC, Y17 NC, Y25 NC, Y26 NC
part A text: BANK 0
part B text: BANK 1
part C text: BANK 2
part D text: BANK 4

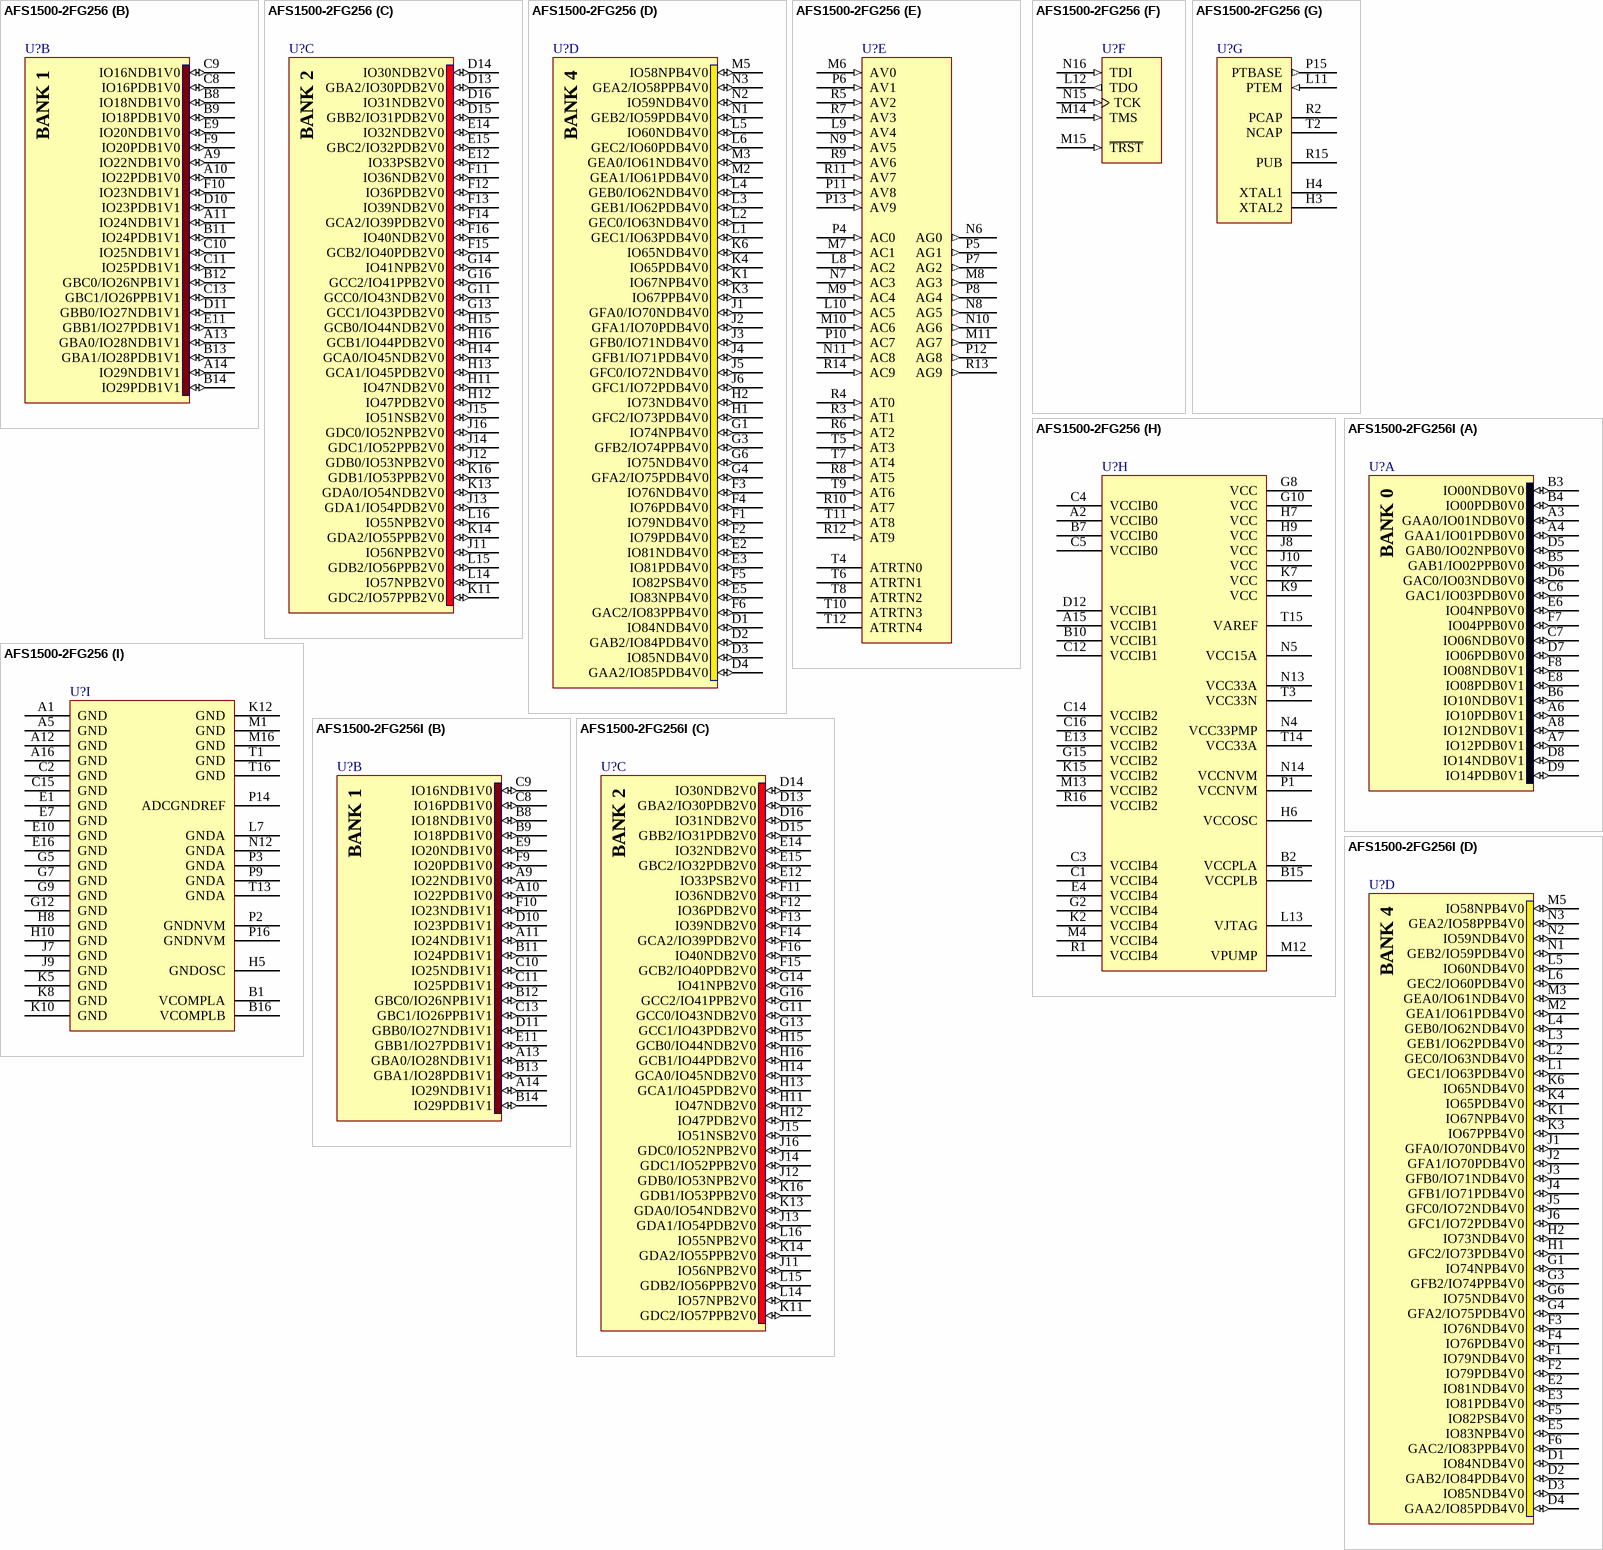
[diagram p103: symbols AFS1500-2FG256 to AFS1500-2FG256I]

## AFS1500-2FG256
designator U?
3.3V Fusion Mixed Signal Flash FPGA, 1.5 Million System Gates, 256-Pin FBGA, 25% Faster Speed Grade, Commercial Grade; DatasheetVersion: v2.0, Jul-2008; PackageVersion: rev39, Aug-2010; PackageReference: FG256; PackageDescription: 256-Ball Fine Pitch Plastic Ball Grid Array 1.00 mm Pitch (FG256); Code_JEDEC: MO-192-DAF-1; ComponentLink1Description: Manufacturer URL; ComponentLink1URL: http://www.actel.com/; ComponentLink2Description: Fusion Datasheet; ComponentLink2URL: http://www.actel.com/documents/Fusion_DS.pdf; ComponentLink3Description: Package Mechanical Drawings; ComponentLink3URL: http://www.actel.com/documents/PckgMechDrwngs.pdf; ComponentLink4Description: Fusion Documents; ComponentLink4URL: http://www.actel.com/products/fusion/docs.aspx
footprint FG256 (BGA, 256-Leads, Body 17x17mm, Pitch 1mm)
part A pins: A3 GAA0/IO01NDB0V0 (io), A4 GAA1/IO01PDB0V0 (io), A6 IO10PDB0V1 (io), A7 IO12PDB0V1 (io), A8 IO12NDB0V1 (io), B3 IO00NDB0V0 (io), B4 IO00PDB0V0 (io), B5 GAB1/IO02PPB0V0 (io), B6 IO10NDB0V1 (io), C6 GAC1/IO03PDB0V0 (io), C7 IO06NDB0V0 (io), D5 GAB0/IO02NPB0V0 (io), D6 GAC0/IO03NDB0V0 (io), D7 IO06PDB0V0 (io), D8 IO14NDB0V1 (io), D9 IO14PDB0V1 (io), E6 IO04NPB0V0 (io), E8 IO08PDB0V1 (io), F7 IO04PPB0V0 (io), F8 IO08NDB0V1 (io)
part B pins: A9 IO22NDB1V0 (io), A10 IO22PDB1V0 (io), A11 IO24NDB1V1 (io), A13 GBA0/IO28NDB1V1 (io), A14 IO29NDB1V1 (io), B8 IO18NDB1V0 (io), B9 IO18PDB1V0 (io), B11 IO24PDB1V1 (io), B12 GBC0/IO26NPB1V1 (io), B13 GBA1/IO28PDB1V1 (io), B14 IO29PDB1V1 (io), C8 IO16PDB1V0 (io), C9 IO16NDB1V0 (io), C10 IO25NDB1V1 (io), C11 IO25PDB1V1 (io), C13 GBC1/IO26PPB1V1 (io), D10 IO23PDB1V1 (io), D11 GBB0/IO27NDB1V1 (io), E9 IO20NDB1V0 (io), E11 GBB1/IO27PDB1V1 (io), F9 IO20PDB1V0 (io), F10 IO23NDB1V1 (io)
part C pins: D13 GBA2/IO30PDB2V0 (io), D14 IO30NDB2V0 (io), D15 GBB2/IO31PDB2V0 (io), D16 IO31NDB2V0 (io), E12 IO33PSB2V0 (io), E14 IO32NDB2V0 (io), E15 GBC2/IO32PDB2V0 (io), F11 IO36NDB2V0 (io), F12 IO36PDB2V0 (io), F13 IO39NDB2V0 (io), F14 GCA2/IO39PDB2V0 (io), F15 GCB2/IO40PDB2V0 (io), F16 IO40NDB2V0 (io), G11 GCC0/IO43NDB2V0 (io), G13 GCC1/IO43PDB2V0 (io), G14 IO41NPB2V0 (io), G16 GCC2/IO41PPB2V0 (io), H11 IO47NDB2V0 (io), H12 IO47PDB2V0 (io), H13 GCA1/IO45PDB2V0 (io), H14 GCA0/IO45NDB2V0 (io), H15 GCB0/IO44NDB2V0 (io), H16 GCB1/IO44PDB2V0 (io), J11 IO56NPB2V0 (io), J12 GDB0/IO53NPB2V0 (io), J13 GDA1/IO54PDB2V0 (io), J14 GDC1/IO52PPB2V0 (io), J15 IO51NSB2V0 (io), J16 GDC0/IO52NPB2V0 (io), K11 GDC2/IO57PPB2V0 (io), K13 GDA0/IO54NDB2V0 (io), K14 GDA2/IO55PPB2V0 (io), K16 GDB1/IO53PPB2V0 (io), L14 IO57NPB2V0 (io), L15 GDB2/IO56PPB2V0 (io), L16 IO55NPB2V0 (io)
part D pins: D1 IO84NDB4V0 (io), D2 GAB2/IO84PDB4V0 (io), D3 IO85NDB4V0 (io), D4 GAA2/IO85PDB4V0 (io), E2 IO81NDB4V0 (io), E3 IO81PDB4V0 (io), E5 IO83NPB4V0 (io), F1 IO79NDB4V0 (io), F2 IO79PDB4V0 (io), F3 IO76NDB4V0 (io), F4 IO76PDB4V0 (io), F5 IO82PSB4V0 (io), F6 GAC2/IO83PPB4V0 (io), G1 IO74NPB4V0 (io), G3 GFB2/IO74PPB4V0 (io), G4 GFA2/IO75PDB4V0 (io), G6 IO75NDB4V0 (io), H1 GFC2/IO73PDB4V0 (io), H2 IO73NDB4V0 (io), J1 GFA0/IO70NDB4V0 (io), J2 GFA1/IO70PDB4V0 (io), J3 GFB0/IO71NDB4V0 (io), J4 GFB1/IO71PDB4V0 (io), J5 GFC0/IO72NDB4V0 (io), J6 GFC1/IO72PDB4V0 (io), K1 IO67NPB4V0 (io), K3 IO67PPB4V0 (io), K4 IO65PDB4V0 (io), K6 IO65NDB4V0 (io), L1 GEC1/IO63PDB4V0 (io), L2 GEC0/IO63NDB4V0 (io), L3 GEB1/IO62PDB4V0 (io), L4 GEB0/IO62NDB4V0 (io), L5 IO60NDB4V0 (io), L6 GEC2/IO60PDB4V0 (io), M2 GEA1/IO61PDB4V0 (io), M3 GEA0/IO61NDB4V0 (io), M5 IO58NPB4V0 (io), N1 GEB2/IO59PDB4V0 (io), N2 IO59NDB4V0 (io), N3 GEA2/IO58PPB4V0 (io)
part E pins: L8 AC2 (in) "Analog current pad 2.", L9 AV4 (in) "Analog voltage pad 4.", L10 AC5 (in) "Analog current pad 5.", M6 AV0 (in) "Analog voltage pad 0.", M7 AC1 (in) "Analog current pad 1.", M8 AG3 (out) "Analog gate driver pad 3.", M9 AC4 (in) "Analog current pad 4.", M10 AC6 (in) "Analog current pad 6.", M11 AG7 (out) "Analog gate driver pad 7.", N6 AG0 (out) "Analog gate driver pad 0.", N7 AC3 (in) "Analog current pad 3.", N8 AG5 (out) "Analog gate driver pad 5.", N9 AV5 (in) "Analog voltage pad 5.", N10 AG6 (out) "Analog gate driver pad 6.", N11 AC8 (in) "Analog current pad 8.", P4 AC0 (in) "Analog current pad 0.", P5 AG1 (out) "Analog gate driver pad 1.", P6 AV1 (in) "Analog voltage pad 1.", P7 AG2 (out) "Analog gate driver pad 2.", P8 AG4 (out) "Analog gate driver pad 4.", P10 AC7 (in) "Analog current pad 7.", P11 AV8 (in) "Analog voltage pad 8.", P12 AG8 (out) "Analog gate driver pad 8.", P13 AV9 (in) "Analog voltage pad 9.", R3 AT1 (in) "Analog temperature pad 1.", R4 AT0 (in) "Analog temperature pad 0.", R5 AV2 (in) "Analog voltage pad 2.", R6 AT2 (in) "Analog temperature pad 2.", R7 AV3 (in) "Analog voltage pad 3.", R8 AT5 (in) "Analog temperature pad 5.", R9 AV6 (in) "Analog voltage pad 6.", R10 AT7 (in) "Analog temperature pad 7.", R11 AV7 (in) "Analog voltage pad 7.", R12 AT9 (in) "Analog temperature pad 9.", R13 AG9 (out) "Analog gate driver pad 9.", R14 AC9 (in) "Analog current pad 9.", T4 ATRTN0 "Temperature monitor return 0.", T5 AT3 (in) "Analog temperature pad 3.", T6 ATRTN1 "Temperature monitor return 1.", T7 AT4 (in) "Analog temperature pad 4.", T8 ATRTN2 "Temperature monitor return 2.", T9 AT6 (in) "Analog temperature pad 6.", T10 ATRTN3 "Temperature monitor return 3.", T11 AT8 (in) "Analog temperature pad 8.", T12 ATRTN4 "Temperature monitor return 4."
part F pins: L12 TDO (out), M14 TMS (in), M15 ~{TRST} (in), N15 TCK (in), N16 TDI (in)
part G pins: H3 XTAL2 "Input to crystal oscillator - If using external RC network or clock input, XTAL1 should be used and XTAL2 left unconnected.", H4 XTAL1 "Input to crystal oscillator - If using external RC network or clock input, XTAL1 should be used and XTAL2 left unconnected.", L11 PTEM (in) "PASS TRANSISTOR EMITTER - The feedback input of the voltage regulator.", P15 PTBASE (out) "PASS TRANSISTOR BASE - The control signal of the voltage regulator.", R2 PCAP "POSITIVE CAPACITOR - where the positive terminal of the charge pump capacitor is connected.", R15 PUB "Power up bar - for the external momentary switch which turns on the 1.5V regulator.", T2 NCAP "NEGATIVE CAPACITOR - where the negative terminal of the charge pump capacitor is connected."
part H pins: A2 VCCIB0 (power), A15 VCCIB1 (power), B2 VCCPLA (power), B7 VCCIB0 (power), B10 VCCIB1 (power), B15 VCCPLB (power), C1 VCCIB4 (power), C3 VCCIB4 (power) "Quiet supply voltage to the input buffers of bank 4.", C4 VCCIB0 (power) "Quiet supply voltage to the input buffers of bank 0.", C5 VCCIB0 (power), C12 VCCIB1 (power), C14 VCCIB2 (power) "Quiet supply voltage to the input buffers of bank 2.", C16 VCCIB2 (power), D12 VCCIB1 (power) "Quiet supply voltage to the input buffers of bank 1.", E4 VCCIB4 (power), E13 VCCIB2 (power), G2 VCCIB4 (power), G8 VCC (power), G10 VCC (power), G15 VCCIB2 (power), H6 VCCOSC (power), H7 VCC (power), H9 VCC (power), J8 VCC (power), J10 VCC (power), K2 VCCIB4 (power), K7 VCC (power), K9 VCC (power), K15 VCCIB2 (power), L13 VJTAG (power), M4 VCCIB4 (power), M12 VPUMP (power), M13 VCCIB2 (power), N4 VCC33PMP (power) "3.3V clean analog power supply input for use by the analog charge pump.", N5 VCC15A (power), N13 VCC33A (power), N14 VCCNVM (power) "1.5V power supply used by the Fusion device's Flash memory block module(s).", P1 VCCNVM (power) "1.5V power supply used by the Fusion device's Flash memory block module(s).", R1 VCCIB4 (power), R16 VCCIB2 (power), T3 VCC33N (power) "-3.3V output from the voltage converter. A 2.2µF capacitor must be connected from this pin to ground.", T14 VCC33A (power) "Analog power pin for the analog power supply low pass filter. An external 1µF capacitor should be connected between this pin and ground.", T15 VAREF (power) "Analog reference voltage to be used by analog to digital converter."
part I pins: A1 GND (power), A5 GND (power), A12 GND (power), A16 GND (power), B1 VCOMPLA (power), B16 VCOMPLB (power), C2 GND (power), C15 GND (power), E1 GND (power), E7 GND (power), E10 GND (power), E16 GND (power), G5 GND (power), G7 GND (power), G9 GND (power), G12 GND (power), H5 GNDOSC (power) "Oscillator ground.", H8 GND (power), H10 GND (power), J7 GND (power), J9 GND (power), K5 GND (power), K8 GND (power), K10 GND (power), K12 GND (power), L7 GNDA (power), M1 GND (power), M16 GND (power), N12 GNDA (power), P2 GNDNVM (power) "Flash memory ground.", P3 GNDA (power), P9 GNDA (power), P14 ADCGNDREF (power) "Analog ground reference used by the ADC.", P16 GNDNVM (power) "Flash memory ground.", T1 GND (power), T13 GNDA (power), T16 GND (power)
part A text: BANK 0
part B text: BANK 1
part C text: BANK 2
part D text: BANK 4

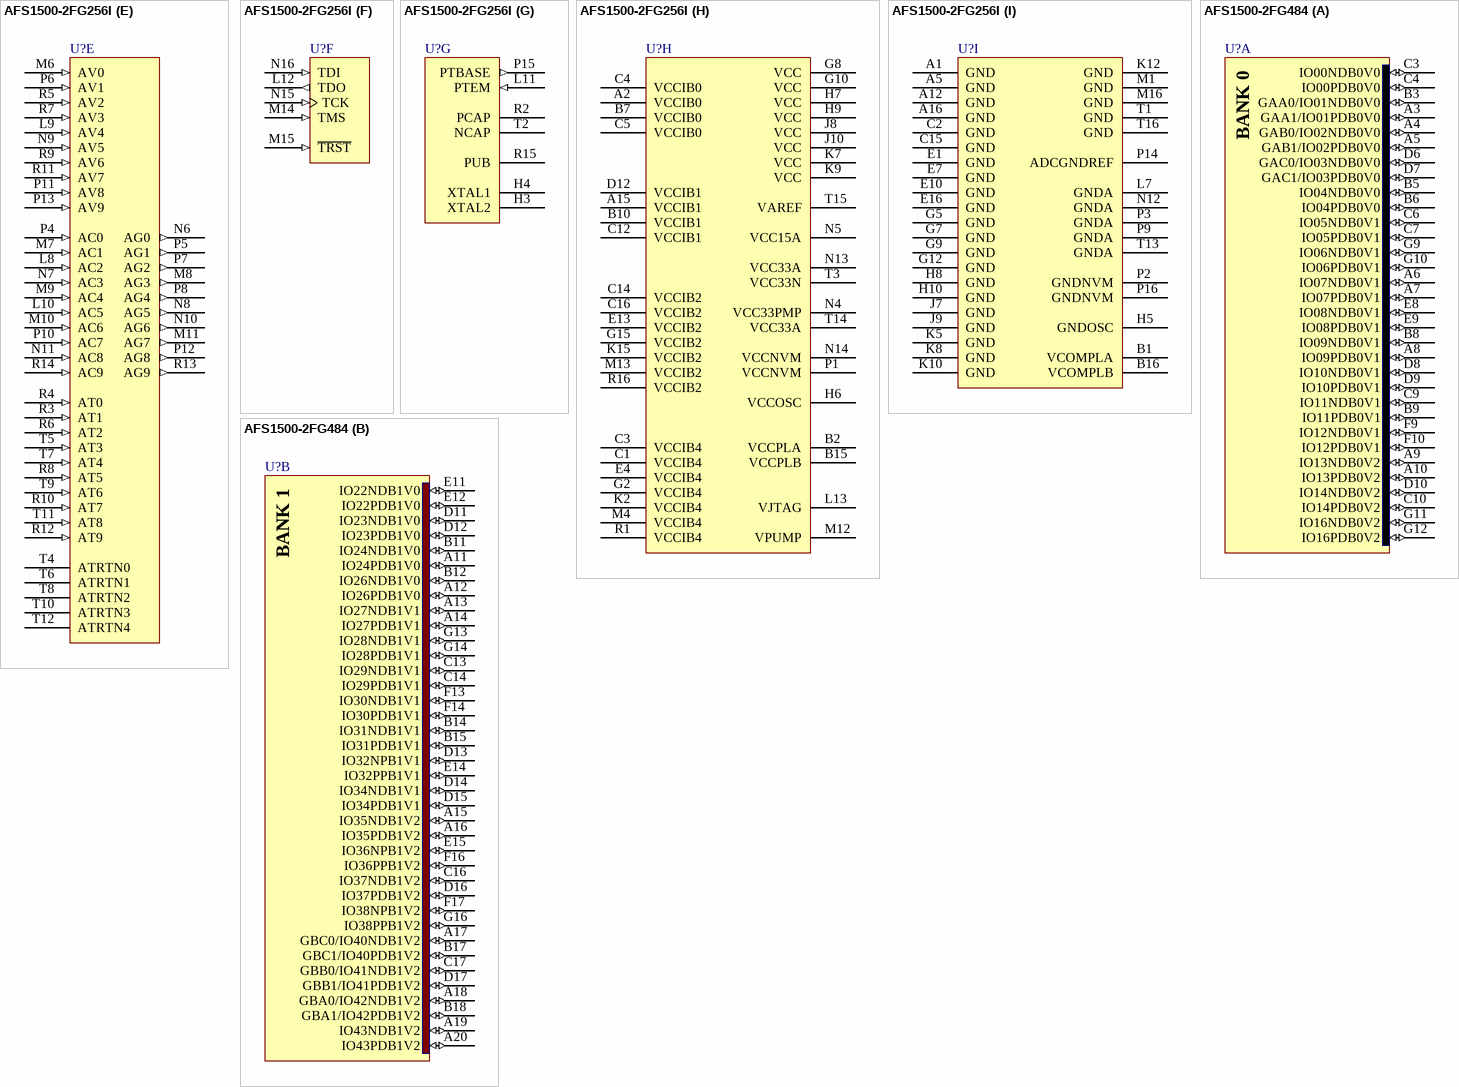
[diagram p104: symbols AFS1500-2FG256I to AFS1500-2FG484]

## AFS1500-2FG256I
designator U?
3.3V Fusion Mixed Signal Flash FPGA, 1.5 Million System Gates, 256-Pin FBGA, 25% Faster Speed Grade, Industrial Grade; DatasheetVersion: v2.0, Jul-2008; PackageVersion: rev39, Aug-2010; PackageReference: FG256; PackageDescription: 256-Ball Fine Pitch Plastic Ball Grid Array 1.00 mm Pitch (FG256); Code_JEDEC: MO-192-DAF-1; ComponentLink1Description: Manufacturer URL; ComponentLink1URL: http://www.actel.com/; ComponentLink2Description: Fusion Datasheet; ComponentLink2URL: http://www.actel.com/documents/Fusion_DS.pdf; ComponentLink3Description: Package Mechanical Drawings; ComponentLink3URL: http://www.actel.com/documents/PckgMechDrwngs.pdf; ComponentLink4Description: Fusion Documents; ComponentLink4URL: http://www.actel.com/products/fusion/docs.aspx
footprint FG256 (BGA, 256-Leads, Body 17x17mm, Pitch 1mm)
part A pins: A3 GAA0/IO01NDB0V0 (io), A4 GAA1/IO01PDB0V0 (io), A6 IO10PDB0V1 (io), A7 IO12PDB0V1 (io), A8 IO12NDB0V1 (io), B3 IO00NDB0V0 (io), B4 IO00PDB0V0 (io), B5 GAB1/IO02PPB0V0 (io), B6 IO10NDB0V1 (io), C6 GAC1/IO03PDB0V0 (io), C7 IO06NDB0V0 (io), D5 GAB0/IO02NPB0V0 (io), D6 GAC0/IO03NDB0V0 (io), D7 IO06PDB0V0 (io), D8 IO14NDB0V1 (io), D9 IO14PDB0V1 (io), E6 IO04NPB0V0 (io), E8 IO08PDB0V1 (io), F7 IO04PPB0V0 (io), F8 IO08NDB0V1 (io)
part B pins: A9 IO22NDB1V0 (io), A10 IO22PDB1V0 (io), A11 IO24NDB1V1 (io), A13 GBA0/IO28NDB1V1 (io), A14 IO29NDB1V1 (io), B8 IO18NDB1V0 (io), B9 IO18PDB1V0 (io), B11 IO24PDB1V1 (io), B12 GBC0/IO26NPB1V1 (io), B13 GBA1/IO28PDB1V1 (io), B14 IO29PDB1V1 (io), C8 IO16PDB1V0 (io), C9 IO16NDB1V0 (io), C10 IO25NDB1V1 (io), C11 IO25PDB1V1 (io), C13 GBC1/IO26PPB1V1 (io), D10 IO23PDB1V1 (io), D11 GBB0/IO27NDB1V1 (io), E9 IO20NDB1V0 (io), E11 GBB1/IO27PDB1V1 (io), F9 IO20PDB1V0 (io), F10 IO23NDB1V1 (io)
part C pins: D13 GBA2/IO30PDB2V0 (io), D14 IO30NDB2V0 (io), D15 GBB2/IO31PDB2V0 (io), D16 IO31NDB2V0 (io), E12 IO33PSB2V0 (io), E14 IO32NDB2V0 (io), E15 GBC2/IO32PDB2V0 (io), F11 IO36NDB2V0 (io), F12 IO36PDB2V0 (io), F13 IO39NDB2V0 (io), F14 GCA2/IO39PDB2V0 (io), F15 GCB2/IO40PDB2V0 (io), F16 IO40NDB2V0 (io), G11 GCC0/IO43NDB2V0 (io), G13 GCC1/IO43PDB2V0 (io), G14 IO41NPB2V0 (io), G16 GCC2/IO41PPB2V0 (io), H11 IO47NDB2V0 (io), H12 IO47PDB2V0 (io), H13 GCA1/IO45PDB2V0 (io), H14 GCA0/IO45NDB2V0 (io), H15 GCB0/IO44NDB2V0 (io), H16 GCB1/IO44PDB2V0 (io), J11 IO56NPB2V0 (io), J12 GDB0/IO53NPB2V0 (io), J13 GDA1/IO54PDB2V0 (io), J14 GDC1/IO52PPB2V0 (io), J15 IO51NSB2V0 (io), J16 GDC0/IO52NPB2V0 (io), K11 GDC2/IO57PPB2V0 (io), K13 GDA0/IO54NDB2V0 (io), K14 GDA2/IO55PPB2V0 (io), K16 GDB1/IO53PPB2V0 (io), L14 IO57NPB2V0 (io), L15 GDB2/IO56PPB2V0 (io), L16 IO55NPB2V0 (io)
part D pins: D1 IO84NDB4V0 (io), D2 GAB2/IO84PDB4V0 (io), D3 IO85NDB4V0 (io), D4 GAA2/IO85PDB4V0 (io), E2 IO81NDB4V0 (io), E3 IO81PDB4V0 (io), E5 IO83NPB4V0 (io), F1 IO79NDB4V0 (io), F2 IO79PDB4V0 (io), F3 IO76NDB4V0 (io), F4 IO76PDB4V0 (io), F5 IO82PSB4V0 (io), F6 GAC2/IO83PPB4V0 (io), G1 IO74NPB4V0 (io), G3 GFB2/IO74PPB4V0 (io), G4 GFA2/IO75PDB4V0 (io), G6 IO75NDB4V0 (io), H1 GFC2/IO73PDB4V0 (io), H2 IO73NDB4V0 (io), J1 GFA0/IO70NDB4V0 (io), J2 GFA1/IO70PDB4V0 (io), J3 GFB0/IO71NDB4V0 (io), J4 GFB1/IO71PDB4V0 (io), J5 GFC0/IO72NDB4V0 (io), J6 GFC1/IO72PDB4V0 (io), K1 IO67NPB4V0 (io), K3 IO67PPB4V0 (io), K4 IO65PDB4V0 (io), K6 IO65NDB4V0 (io), L1 GEC1/IO63PDB4V0 (io), L2 GEC0/IO63NDB4V0 (io), L3 GEB1/IO62PDB4V0 (io), L4 GEB0/IO62NDB4V0 (io), L5 IO60NDB4V0 (io), L6 GEC2/IO60PDB4V0 (io), M2 GEA1/IO61PDB4V0 (io), M3 GEA0/IO61NDB4V0 (io), M5 IO58NPB4V0 (io), N1 GEB2/IO59PDB4V0 (io), N2 IO59NDB4V0 (io), N3 GEA2/IO58PPB4V0 (io)
part E pins: L8 AC2 (in) "Analog current pad 2.", L9 AV4 (in) "Analog voltage pad 4.", L10 AC5 (in) "Analog current pad 5.", M6 AV0 (in) "Analog voltage pad 0.", M7 AC1 (in) "Analog current pad 1.", M8 AG3 (out) "Analog gate driver pad 3.", M9 AC4 (in) "Analog current pad 4.", M10 AC6 (in) "Analog current pad 6.", M11 AG7 (out) "Analog gate driver pad 7.", N6 AG0 (out) "Analog gate driver pad 0.", N7 AC3 (in) "Analog current pad 3.", N8 AG5 (out) "Analog gate driver pad 5.", N9 AV5 (in) "Analog voltage pad 5.", N10 AG6 (out) "Analog gate driver pad 6.", N11 AC8 (in) "Analog current pad 8.", P4 AC0 (in) "Analog current pad 0.", P5 AG1 (out) "Analog gate driver pad 1.", P6 AV1 (in) "Analog voltage pad 1.", P7 AG2 (out) "Analog gate driver pad 2.", P8 AG4 (out) "Analog gate driver pad 4.", P10 AC7 (in) "Analog current pad 7.", P11 AV8 (in) "Analog voltage pad 8.", P12 AG8 (out) "Analog gate driver pad 8.", P13 AV9 (in) "Analog voltage pad 9.", R3 AT1 (in) "Analog temperature pad 1.", R4 AT0 (in) "Analog temperature pad 0.", R5 AV2 (in) "Analog voltage pad 2.", R6 AT2 (in) "Analog temperature pad 2.", R7 AV3 (in) "Analog voltage pad 3.", R8 AT5 (in) "Analog temperature pad 5.", R9 AV6 (in) "Analog voltage pad 6.", R10 AT7 (in) "Analog temperature pad 7.", R11 AV7 (in) "Analog voltage pad 7.", R12 AT9 (in) "Analog temperature pad 9.", R13 AG9 (out) "Analog gate driver pad 9.", R14 AC9 (in) "Analog current pad 9.", T4 ATRTN0 "Temperature monitor return 0.", T5 AT3 (in) "Analog temperature pad 3.", T6 ATRTN1 "Temperature monitor return 1.", T7 AT4 (in) "Analog temperature pad 4.", T8 ATRTN2 "Temperature monitor return 2.", T9 AT6 (in) "Analog temperature pad 6.", T10 ATRTN3 "Temperature monitor return 3.", T11 AT8 (in) "Analog temperature pad 8.", T12 ATRTN4 "Temperature monitor return 4."
part F pins: L12 TDO (out), M14 TMS (in), M15 ~{TRST} (in), N15 TCK (in), N16 TDI (in)
part G pins: H3 XTAL2 "Input to crystal oscillator - If using external RC network or clock input, XTAL1 should be used and XTAL2 left unconnected.", H4 XTAL1 "Input to crystal oscillator - If using external RC network or clock input, XTAL1 should be used and XTAL2 left unconnected.", L11 PTEM (in) "PASS TRANSISTOR EMITTER - The feedback input of the voltage regulator.", P15 PTBASE (out) "PASS TRANSISTOR BASE - The control signal of the voltage regulator.", R2 PCAP "POSITIVE CAPACITOR - where the positive terminal of the charge pump capacitor is connected.", R15 PUB "Power up bar - for the external momentary switch which turns on the 1.5V regulator.", T2 NCAP "NEGATIVE CAPACITOR - where the negative terminal of the charge pump capacitor is connected."
part H pins: A2 VCCIB0 (power), A15 VCCIB1 (power), B2 VCCPLA (power), B7 VCCIB0 (power), B10 VCCIB1 (power), B15 VCCPLB (power), C1 VCCIB4 (power), C3 VCCIB4 (power) "Quiet supply voltage to the input buffers of bank 4.", C4 VCCIB0 (power) "Quiet supply voltage to the input buffers of bank 0.", C5 VCCIB0 (power), C12 VCCIB1 (power), C14 VCCIB2 (power) "Quiet supply voltage to the input buffers of bank 2.", C16 VCCIB2 (power), D12 VCCIB1 (power) "Quiet supply voltage to the input buffers of bank 1.", E4 VCCIB4 (power), E13 VCCIB2 (power), G2 VCCIB4 (power), G8 VCC (power), G10 VCC (power), G15 VCCIB2 (power), H6 VCCOSC (power), H7 VCC (power), H9 VCC (power), J8 VCC (power), J10 VCC (power), K2 VCCIB4 (power), K7 VCC (power), K9 VCC (power), K15 VCCIB2 (power), L13 VJTAG (power), M4 VCCIB4 (power), M12 VPUMP (power), M13 VCCIB2 (power), N4 VCC33PMP (power) "3.3V clean analog power supply input for use by the analog charge pump.", N5 VCC15A (power), N13 VCC33A (power), N14 VCCNVM (power) "1.5V power supply used by the Fusion device's Flash memory block module(s).", P1 VCCNVM (power) "1.5V power supply used by the Fusion device's Flash memory block module(s).", R1 VCCIB4 (power), R16 VCCIB2 (power), T3 VCC33N (power) "-3.3V output from the voltage converter. A 2.2µF capacitor must be connected from this pin to ground.", T14 VCC33A (power) "Analog power pin for the analog power supply low pass filter. An external 1µF capacitor should be connected between this pin and ground.", T15 VAREF (power) "Analog reference voltage to be used by analog to digital converter."
part I pins: A1 GND (power), A5 GND (power), A12 GND (power), A16 GND (power), B1 VCOMPLA (power), B16 VCOMPLB (power), C2 GND (power), C15 GND (power), E1 GND (power), E7 GND (power), E10 GND (power), E16 GND (power), G5 GND (power), G7 GND (power), G9 GND (power), G12 GND (power), H5 GNDOSC (power) "Oscillator ground.", H8 GND (power), H10 GND (power), J7 GND (power), J9 GND (power), K5 GND (power), K8 GND (power), K10 GND (power), K12 GND (power), L7 GNDA (power), M1 GND (power), M16 GND (power), N12 GNDA (power), P2 GNDNVM (power) "Flash memory ground.", P3 GNDA (power), P9 GNDA (power), P14 ADCGNDREF (power) "Analog ground reference used by the ADC.", P16 GNDNVM (power) "Flash memory ground.", T1 GND (power), T13 GNDA (power), T16 GND (power)
part A text: BANK 0
part B text: BANK 1
part C text: BANK 2
part D text: BANK 4

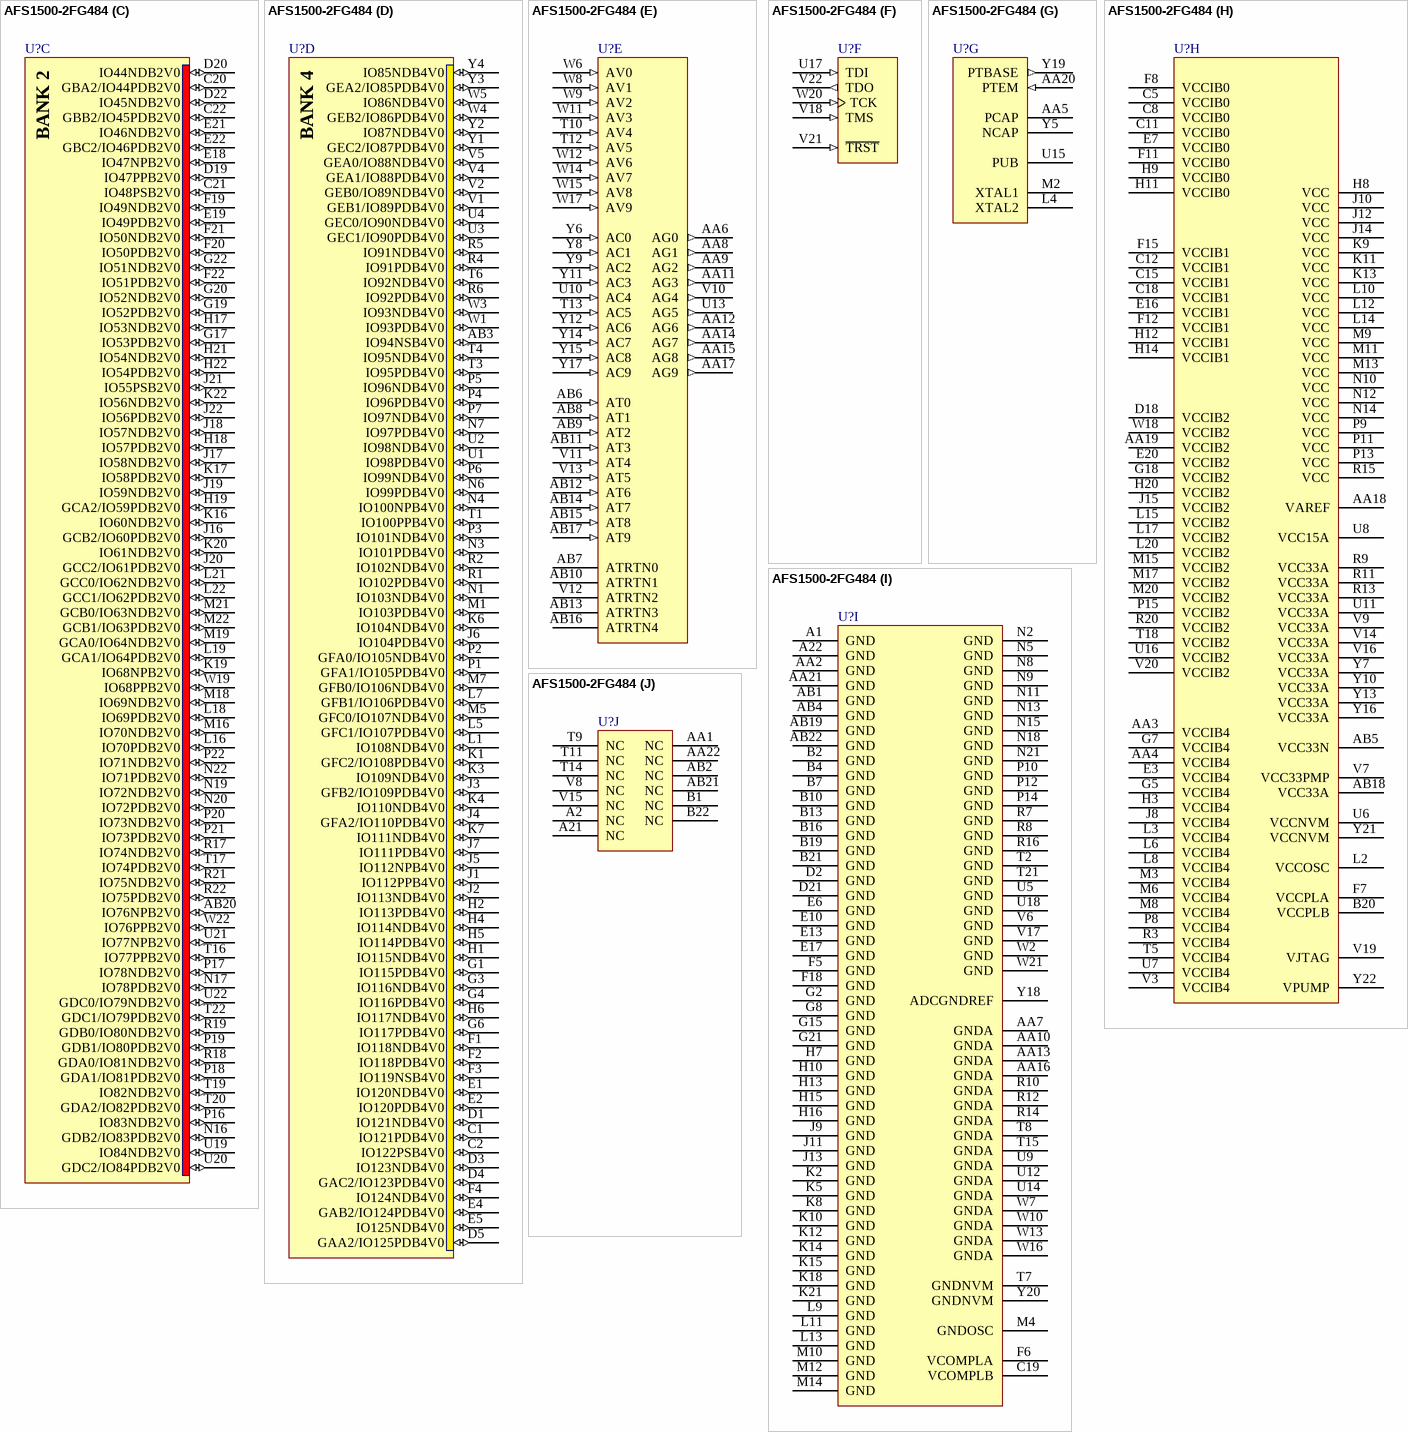
[diagram p105: symbol AFS1500-2FG484]